# EAGLE library part X14 (library connectors)
Connector 14 pins
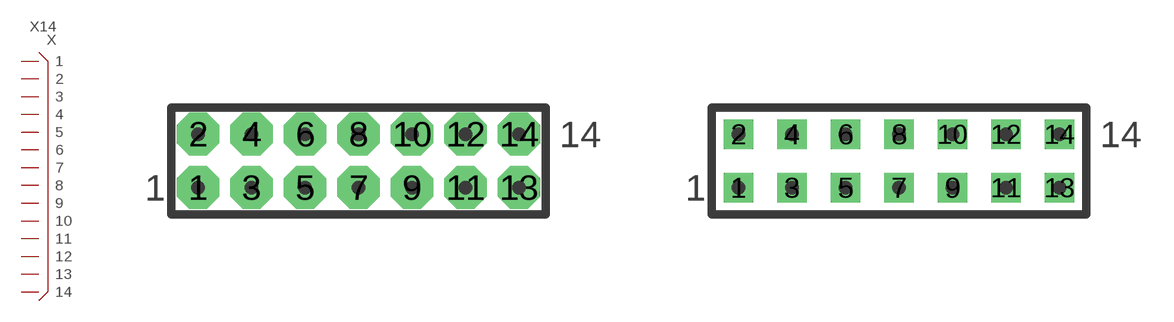
[diagram p20: symbol with the pads of X14N-DIL; footprints X14N-DIL, X14R-DIL]

Designator prefix X

## X14D  [X14N-DIL]
1  1
2  2
3  3
4  4
5  5
6  6
7  7
8  8
9  9
10  10
11  11
12  12
13  13
14  14

## X14DR  [X14R-DIL]
Pads as for X14N-DIL

## X14I  [X14N-IDC]
Pads as for X14N-DIL

## X14  [X14N-IDC]
Pads as for X14N-DIL

## X14IR  [X14R-IDC]
Pads as for X14N-DIL

## X14L  [X14L-SIL]
Pads as for X14N-DIL

## X14N  [X14N-SIL]
Pads as for X14N-DIL

## X14R  [X14R-SIL]
Pads as for X14N-DIL

## X14TL  [TEX14L]
Pads as for X14N-DIL

## X14TN  [TEX14N]
Pads as for X14N-DIL

## X14TR  [TEX14R]
Pads as for X14N-DIL

## X14T  [TEX14L]
Pads as for X14N-DIL

## Footprint X14N-DIL (pad centres in mm)
Connector 14 pins, DIL
drill 0.889 pad 2.032 octagon: 1 -7.62,-1.27; 2 -7.62,1.27; 3 -5.08,-1.27; 4 -5.08,1.27; 5 -2.54,-1.27; 6 -2.54,1.27; 7 0,-1.27; 8 0,1.27; 9 2.54,-1.27; 10 2.54,1.27; 11 5.08,-1.27; 12 5.08,1.27; 13 7.62,-1.27; 14 7.62,1.27

## Footprint X14R-DIL (pad centres in mm)
Connector 14 pins, DIL, reduced pads
drill 0.889 pad 1.397 square: 1 -7.62,-1.27; 2 -7.62,1.27; 3 -5.08,-1.27; 4 -5.08,1.27; 5 -2.54,-1.27; 6 -2.54,1.27; 7 0,-1.27; 8 0,1.27; 9 2.54,-1.27; 10 2.54,1.27; 11 5.08,-1.27; 12 5.08,1.27; 13 7.62,-1.27; 14 7.62,1.27

## Footprint X14N-IDC (pad centres in mm)
Connector 14 pins, IDC
drill 0.889 pad 2.032 octagon: 1 -7.62,-1.27; 2 -7.62,1.27; 3 -5.08,-1.27; 4 -5.08,1.27; 5 -2.54,-1.27; 6 -2.54,1.27; 7 0,-1.27; 8 0,1.27; 9 2.54,-1.27; 10 2.54,1.27; 11 5.08,-1.27; 12 5.08,1.27; 13 7.62,-1.27; 14 7.62,1.27

## Footprint X14R-IDC (pad centres in mm)
Connector 14 pins, IDC, reduced pads
drill 0.889 pad 1.397 square: 1 -7.62,-1.27; 2 -7.62,1.27; 3 -5.08,-1.27; 4 -5.08,1.27; 5 -2.54,-1.27; 6 -2.54,1.27; 7 0,-1.27; 8 0,1.27; 9 2.54,-1.27; 10 2.54,1.27; 11 5.08,-1.27; 12 5.08,1.27; 13 7.62,-1.27; 14 7.62,1.27

## Footprint X14L-SIL (pad centres in mm)
Connector 14 pins, SIL, long pads
drill 0.889 pad 1.397 long: 1 -16.51,0; 2 -13.97,0; 3 -11.43,0; 4 -8.89,0; 5 -6.35,0; 6 -3.81,0; 7 -1.27,0; 8 1.27,0; 9 3.81,0; 10 6.35,0; 11 8.89,0; 12 11.43,0; 13 13.97,0; 14 16.51,0

## Footprint X14N-SIL (pad centres in mm)
Connector 14 pins, SIL
drill 0.889 pad 2.032 octagon: 1 -16.51,0; 2 -13.97,0; 3 -11.43,0; 4 -8.89,0; 5 -6.35,0; 6 -3.81,0; 7 -1.27,0; 8 1.27,0; 9 3.81,0; 10 6.35,0; 11 8.89,0; 12 11.43,0; 13 13.97,0; 14 16.51,0

## Footprint X14R-SIL (pad centres in mm)
Connector 14 pins, SIL, reduced pads
drill 0.889 pad 1.397 square: 1 -16.51,0; 2 -13.97,0; 3 -11.43,0; 4 -8.89,0; 5 -6.35,0; 6 -3.81,0; 7 -1.27,0; 8 1.27,0; 9 3.81,0; 10 6.35,0; 11 8.89,0; 12 11.43,0; 13 13.97,0; 14 16.51,0

## Footprint TEX14L (pad centres in mm)
TEX-14, long pads TEXTOOL zero-force IC package, 14 pins
drill 0.991 pad 1.397 long: 1 -7.62,-3.81; 2 -5.08,-3.81; 3 -2.54,-3.81; 4 0,-3.81; 5 2.54,-3.81; 6 5.08,-3.81; 7 7.62,-3.81; 8 7.62,3.81; 9 5.08,3.81; 10 2.54,3.81; 11 0,3.81; 12 -2.54,3.81; 13 -5.08,3.81; 14 -7.62,3.81

## Footprint TEX14N (pad centres in mm)
TEX-14 TEXTOOL zero-force IC package, 14 pins
drill 0.991 pad 2.032 octagon: 1 -7.62,-3.81; 2 -5.08,-3.81; 3 -2.54,-3.81; 4 0,-3.81; 5 2.54,-3.81; 6 5.08,-3.81; 7 7.62,-3.81; 8 7.62,3.81; 9 5.08,3.81; 10 2.54,3.81; 11 0,3.81; 12 -2.54,3.81; 13 -5.08,3.81; 14 -7.62,3.81

## Footprint TEX14R (pad centres in mm)
TEX-14, reduced pads TEXTOOL zero-force IC package, 14 pins
drill 0.991 pad 1.397 square: 1 -7.62,-3.81; 2 -5.08,-3.81; 3 -2.54,-3.81; 4 0,-3.81; 5 2.54,-3.81; 6 5.08,-3.81; 7 7.62,-3.81; 8 7.62,3.81; 9 5.08,3.81; 10 2.54,3.81; 11 0,3.81; 12 -2.54,3.81; 13 -5.08,3.81; 14 -7.62,3.81